# EAGLE library part HCF4010YM013TR (library ruark2)
Voltage Level Translator Unidirectional 6 Circuit 1 Channel 16-SO
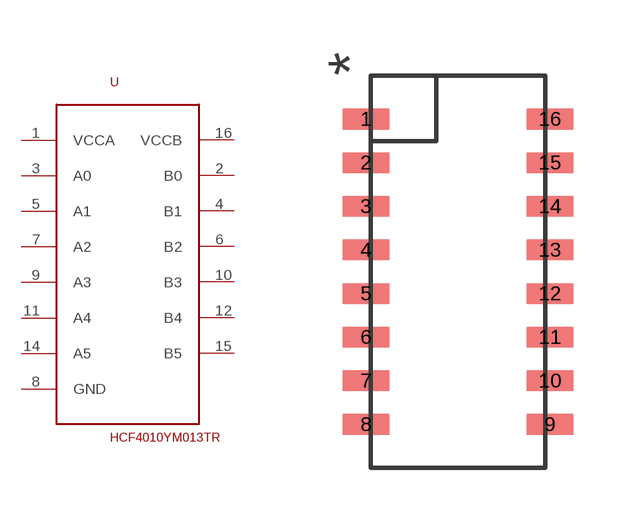
[diagram p31: symbol with the pads of SO16; footprint SO16]

Designator prefix U

## HCF4010YM013TR (PARTNO: 497-13665-1-ND)  [SO16]
1  VCCA
2  B0
3  A0
4  B1
5  A1
6  B2
7  A2
8  GND
9  A3
10  B3
11  A4
12  B4
14  A5
15  B5
16  VCCB

## Footprint SO16 (pad centres in mm)
smd 1.35 x 0.6: 1 -2.215,5.62; 2 -2.215,4.35; 3 -2.215,3.08; 4 -2.215,1.81; 5 -2.215,0.54; 6 -2.215,-0.73; 7 -2.215,-2; 8 -2.215,-3.27; 9 3.135,-3.27; 10 3.135,-2; 11 3.135,-0.73; 12 3.135,0.54; 13 3.135,1.81; 14 3.135,3.08; 15 3.135,4.35; 16 3.135,5.62